# EAGLE library part AD8222 (library my_library)
Precision, Dual-Channel Instrumentation Amplifier
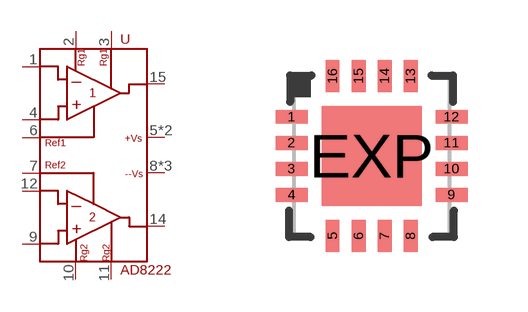
[diagram p1: symbol with the pads of QFN16-4X4; footprint QFN16-4X4]

Designator prefix U

## AD8222  [QFN16-4X4]
1  -IN1
2  RG1
3  RG1'
4  +IN1
5  +VS
6  REF1
7  REF2
8  -VS
9  +IN2
10  RG2
11  RG2'
12  -IN2
13  -VS
14  OUT2
15  OUT1
16  +VS
EXP  -VS

## Footprint QFN16-4X4 (pad centres in mm)
16-Lead Plastic Quad Flat, No Lead Package (ML) - 4x4x0.9mm Body [QFN] Source: http://ww1.microchip.com/downloads/en/DeviceDoc/41203E.pdf
smd 0.8 x 0.35: 1 -2,0.975; 2 -2,0.325; 3 -2,-0.325; 4 -2,-0.975; 9 2,-0.975; 10 2,-0.325; 11 2,0.325; 12 2,0.975
smd 0.35 x 0.8: 5 -0.975,-2; 6 -0.325,-2; 7 0.325,-2; 8 0.975,-2; 13 0.975,2; 14 0.325,2; 15 -0.325,2; 16 -0.975,2
smd 2.5 x 2.5: EXP 0,0